# Altium schematic symbol library Current Transformer.SchLib: 1 symbol
Pins are listed as number, name and electrical type; pins without a type are passive.

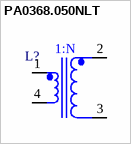
[diagram p0: symbol PA0368.050NLT]

## PA0368.050NLT
designator L?  (value not drawn)
Current Transformer 1:50 500Vrms 0.004Ohm Prim. DCR 0.9Ohm Sec. DCR 4000mA Surface Mount; Manufacturer: Pulse; Frequency: 1kHz; Current Rating: 4A; Inductance: 1.7mH; DC Resistance (DCR): 4mR; Supplier 1: Digi-Key; Manufacturer Part Number: PA0368.050NLT; RoHS: Yes; Category: Inductors; Stock 1: 2736; Pricing 1: 1=2.28000, 10=1.82200, 25=1.48000, 50=1.44220, 100=1.40420, 250=1.36620, 500=1.35482 (USD); Mount: Surface Mount; Number of Pins: 4; Min Operating Temperature: -40°C; Max Operating Temperature: 130°C; Turns Ratio: 1:50; Packaging: Tape and Reel; Package Quantity: 1100; Termination: SMD/SMT; Length: 8.25mm; Height: 3.4mm; Width: 8.25mm; Height - Seated (Max): 3.4mm; Depth: 8.25mm; Radiation Hardening: No; ComponentLink1URL: https://datasheet.ciiva.com/3293/+spm2007-57-3293304.pdf?src-supplier=Avnet; ComponentLink1Description: https://datasheet.ciiva.com/3293/+spm2007-57-3293304.pdf?src-supplier=Avnet; ComponentLink2URL: https://datasheet.ciiva.com/17293/+spm2007-57-17293503.pdf?src-supplier=Avnet+Europe; ComponentLink2Description: https://datasheet.ciiva.com/17293/+spm2007-57-17293503.pdf?src-supplier=Avnet+Europe; Supplier Part Number 1: 553-3809-1-ND
footprint PA0368.050NLT (Current Transformer 1:50 500Vrms 0.004Ohm Prim. DCR 0.9Ohm Sec. DCR 4000mA Surface Mount)
pins: 1, 2, 3, 4
text: 1:N